# EAGLE library part 06-JST (library bt_con-jst-xh)
JST CONNECTOR
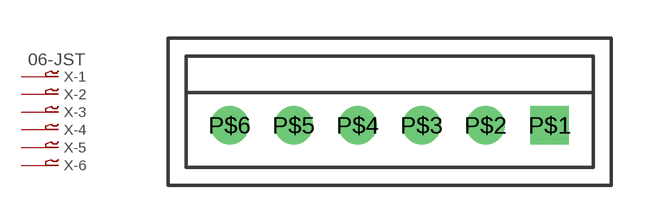
[diagram p0: symbol with the pads of B6B-XH; footprint B6B-XH]

Designator prefix X; gates -1=P-VN -2=P-N -3=P-N -4=P-N -5=P-N -6=P-N

## 06-JST-B6B-XH-A  [B6B-XH]
P$1  -1:1  pas
P$2  -2:1  pas
P$3  -3:1  pas
P$4  -4:1  pas
P$5  -5:1  pas
P$6  -6:1  pas

## Footprint B6B-XH (pad centres in mm)
JST XH Connector JST 2.54mm connector. Folded beam contact, box-shaped shrouded header, header with a boss, interchangeability, conformance to the HA terminal Datasheet: eXH.pdf <http://www.jst-mfg.com/product/pdf/eng/eXH.pdf>
drill 1 square: P$1 6.25,0
drill 1: P$2 3.75,0; P$3 1.25,0; P$4 -1.25,0; P$5 -3.75,0; P$6 -6.25,0